# Altium footprint library PCB_TCC.PcbLib: 37 footprints (part 1 of 3)
Each footprint in its own frame and in the unit in brackets; x right, y up, seen from the top. Pads: shape width x height; smd on the part's side, far side on the other; paste and mask are expansions set on the pad; w line width, h text height; cw(c..) or ccw(c..) is an arc to the next point about the centre after c.
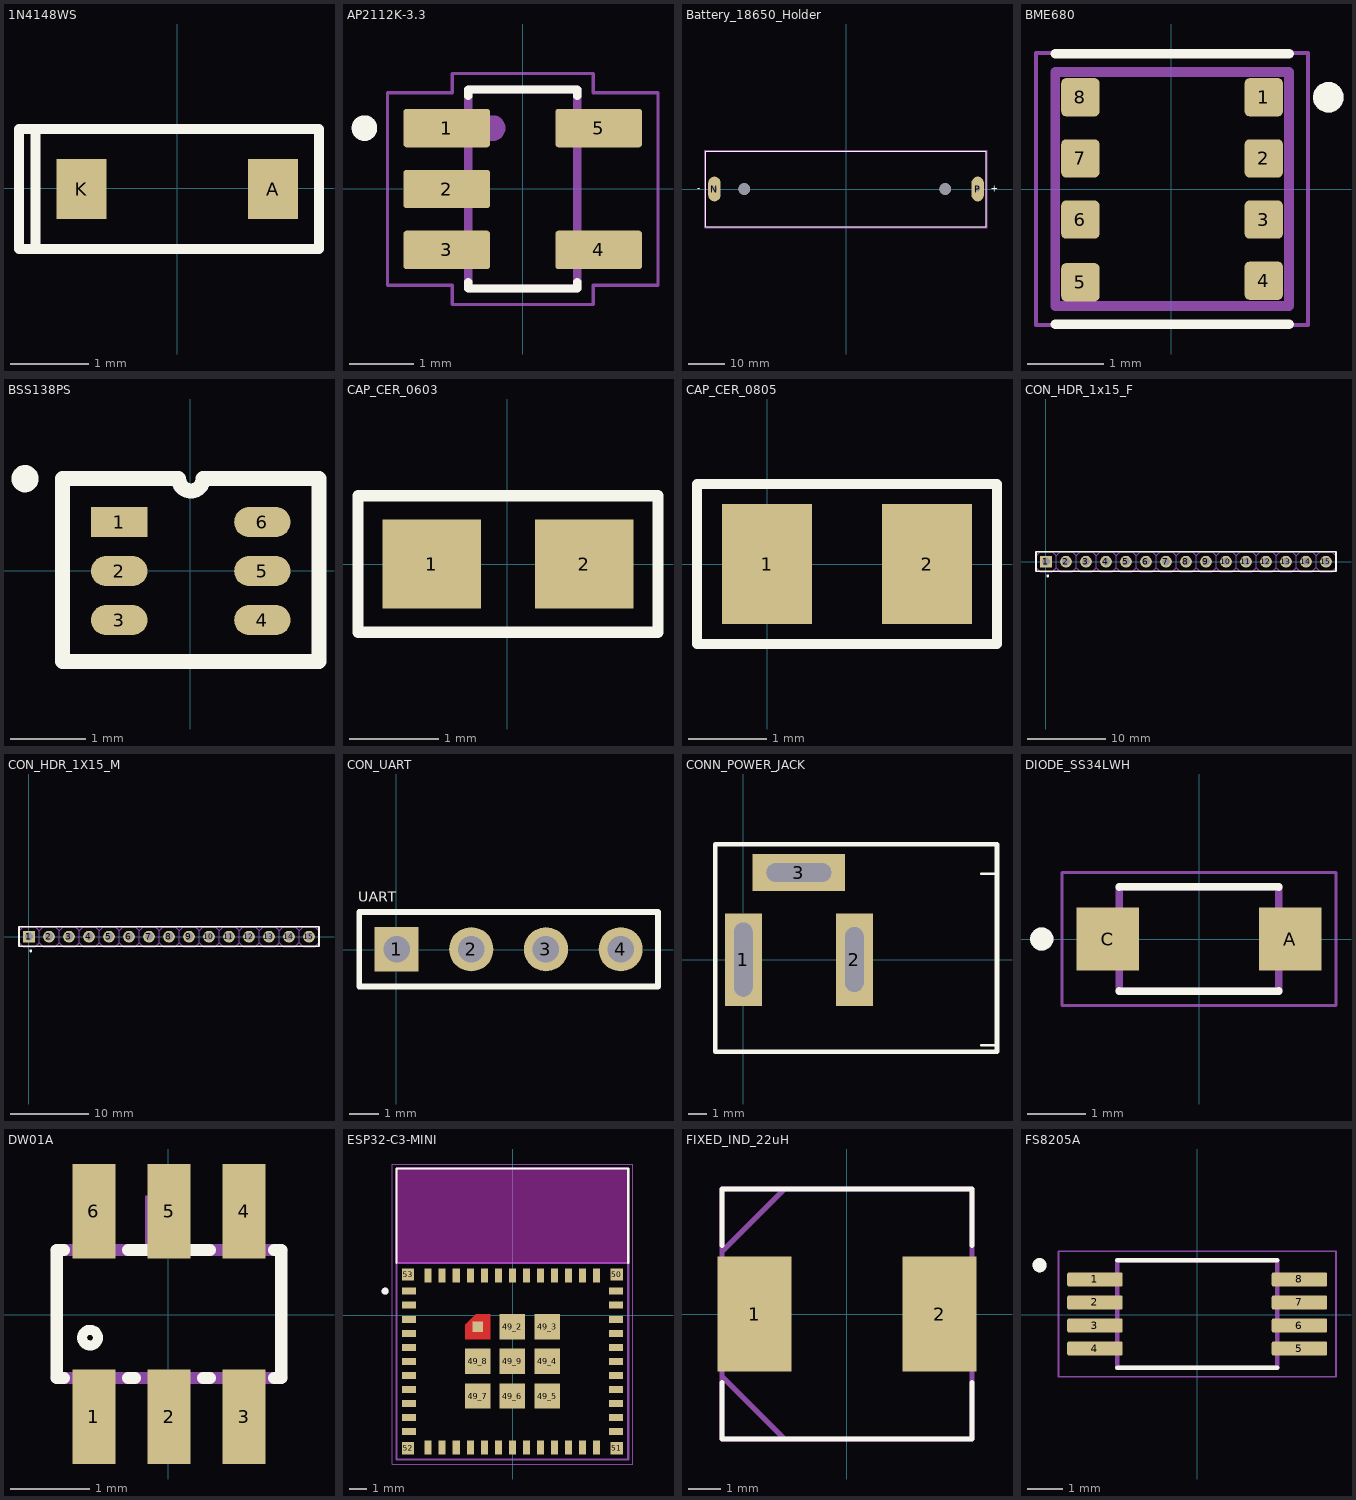
[diagram p0: the footprints below, top view; thin cyan lines are the x and y axes]

## 1N4148WS [mil]
pads (2):
  rect 25x30 smd: A(47.94,-0.44) K(-48.06,-0.44)
Top Overlay:
  lines w5: -71.06,-30.44 70.94,-30.44 70.94,29.56 -71.06,29.56 ; -71.06,-30.44 -71.06,29.56 ; -71.06,-30.44 -79.42,-30.44 -79.42,29.56 -71.06,29.56
3D body "User Library-SOD-323.step": height 43.5, standoff 0, extent -51.25,-27.01 51.12,26.13

## AP2112K-3.3 [mm]
pads (5):
  rrect15% 1.35x0.6 smd: 1(-1.187,0.948) 2(-1.187,-0.002) 3(-1.187,-0.952) 4(1.183,-0.952) 5(1.183,0.948)
Top Overlay:
  circle w0.2: c-2.471,0.948 r0.1
  lines w0.127: -0.852,-1.452 -0.852,-1.552 0.848,-1.552 0.848,-1.452 ; -0.852,1.448 -0.852,1.548 0.848,1.548 0.848,1.448
Mechanical 13:
  circle w0.2: c-0.471,0.948 r0.1
  lines w0.127: -0.852,-1.552 0.848,-1.552 0.848,1.548 -0.852,1.548 -0.852,-1.552
Mechanical 15:
  lines w0.05: -2.112,-1.502 -2.112,1.498 -1.102,1.498 -1.102,1.798 1.098,1.798 1.098,1.498 2.108,1.498 2.108,-1.502 1.098,-1.502 1.098,-1.802 -1.102,-1.802 -1.102,-1.502 -2.112,-1.502
3D body "AP2112K-3.3TRG1--3DModel-STEP-1.STEP": height 1.4, standoff 0, extent -1.4,-1.5 1.4,1.5

## Battery_18650_Holder [mm]
pads (4):
  oval 3.44x6.88 hole 1.38 square: N(-36.525,0.085) P(36.375,0.085)
  round 3.2 hole 3.2 unplated: ""(-28.245,0.085) ""(27.365,0.085)
Top Overlay:
  lines w0.127: -38.925,-10.365 -38.925,10.535 38.775,10.535 38.775,-10.365 -38.925,-10.365
  text "+" at 39.93,-0.677 h1.78
  text "-" at -41.35,-0.55 h1.78
Mechanical 13:
  lines w0.127: -38.925,-10.365 -38.925,10.535 38.775,10.535 38.775,-10.365 -38.925,-10.365
  text "+" at 39.93,-0.677 h1.78
  text "-" at -41.35,-0.55 h1.78
Mechanical 15:
  lines w0.05: -39.175,-10.615 -39.175,10.785 39.025,10.785 39.025,-10.615 -39.175,-10.615
3D body "BH-18650-PC--3DModel-STEP-56544.STEP": height 21.31, standoff -3.3, extent -38.989,-10.45 38.711,10.45

## BME680 [mm]
pads (8):
  rrect25% 0.5x0.5 smd: 1(1.21,1.201) 2(1.21,0.401) 3(1.21,-0.399) 4(1.21,-1.199) 5(-1.19,-1.219) 6(-1.19,-0.399) 7(-1.19,0.401) 8(-1.19,1.201)
Top Overlay:
  circle w0.2: c2.055,1.201 r0.1
  lines w0.127: -1.52,-1.769 1.54,-1.769 ; -1.52,1.771 1.54,1.771
Mechanical 13:
  circle w0.2: c2.055,1.201 r0.1
  lines w0.127: -1.52,-1.529 1.54,-1.529 1.54,1.531 -1.52,1.531 -1.52,-1.529
Mechanical 15:
  lines w0.05: -1.77,-1.779 -1.77,1.781 1.79,1.781 1.79,-1.779 -1.77,-1.779
3D body "step_temp.STEP": height 1, standoff 0, extent -1.49,-1.499 1.51,1.501

## BSS138PS [mm]
pads (6):
  rect 0.75x0.4 smd: 1(-0.943,0.648)
  oval 0.75x0.4 smd: 2(-0.943,-0.002) 3(-0.943,-0.652) 4(0.957,-0.652) 5(0.957,-0.002) 6(0.957,0.648)
Top Overlay:
  circle w0.203: c-2.193,1.223 r0.079
  lines w0.2: -1.693,-1.202 1.707,-1.202 1.707,1.223 0.17,1.223 cw(c0.007,1.223) -0.155,1.223 -1.693,1.223 -1.693,-1.202
3D body "sot363.step": height 1, standoff 0, extent -1.143,-1.039 1.157,1.061

## CAP_CER_0603 [mm]
pads (2):
  rect 1.1x1 smd: 1(-0.843,0.002) 2(0.857,0.002)
Top Overlay:
  lines w0.127: -1.669,-0.76 1.684,-0.76 1.684,0.764 -1.669,0.764 -1.669,-0.76
3D body "User Library-SMD CAPACITOR.step": height 0.8, standoff 0, extent -0.793,-0.398 0.807,0.402

## CAP_CER_0805 [mil]
pads (2):
  rect 45x60 smd: 1(-0.11,0.15) 2(79.89,0.15)
Top Overlay:
  lines w5: -35.11,-39.85 -35.11,40.15 114.89,40.15 114.89,-39.85 -35.11,-39.85
3D body "0805.step": height 23.62, standoff 0, extent 0.52,-24.46 79.26,24.75

## CON_HDR_1x15_F [mm]
pads (15):
  rect 1.5x1.5 hole 1.02: 1(0,0)
  round 1.5 hole 1.02: 2(2.54,0) 3(5.08,0) 4(7.62,0) 5(10.16,0) 6(12.7,0) 7(15.24,0) 8(17.78,0) 9(20.32,0) 10(22.86,0) 11(25.4,0) 12(27.94,0) 13(30.48,0) 14(33.02,0) 15(35.56,0)
Top Overlay:
  circle w0.25: c0.229,-1.796 r0.059
  lines w0.2: -1.27,-1.194 36.83,-1.194 36.83,1.27 -1.27,1.27 -1.27,-1.194
Mechanical 13:
  lines w0.025: 1.272,-0.762 1.272,0.762 ; 1.271,-0.762 0.763,-1.27 -0.76,-1.27 -1.269,-0.762 -1.268,0.762 -0.76,1.27 0.764,1.27 1.271,0.762 ; 1.272,-0.762 1.272,0.762 ; 1.271,-0.762 1.779,-1.27 3.304,-1.27 3.811,-0.762 ; 1.272,0.762 1.78,1.27 3.304,1.27 3.811,0.762 ; 3.812,-0.762 3.812,0.762 ; 3.812,-0.762 3.812,0.762 ; 3.811,-0.762 4.319,-1.27 5.844,-1.27 6.351,-0.762 ; 3.812,0.762 4.32,1.27 5.844,1.27 6.351,0.762 ; 6.352,-0.762 6.352,0.762 ; 6.352,-0.762 6.352,0.762 ; 6.351,-0.762 6.859,-1.27 8.384,-1.27 8.891,-0.762 ; 6.352,0.762 6.86,1.27 8.384,1.27 8.891,0.762 ; 8.892,-0.762 8.892,0.762 ; 8.892,-0.762 8.892,0.762 ; 8.891,-0.762 9.399,-1.27 10.924,-1.27 11.431,-0.762 ; 8.892,0.762 9.4,1.27 10.924,1.27 11.431,0.762 ; 11.432,-0.762 11.432,0.762 ; 11.432,-0.762 11.432,0.762 ; 11.431,-0.762 11.939,-1.27 13.464,-1.27 13.971,-0.762 ; 11.432,0.762 11.94,1.27 13.464,1.27 13.971,0.762 ; 13.972,-0.762 13.972,0.762 ; 13.972,-0.762 13.972,0.762 ; 13.971,-0.762 14.479,-1.27 16.004,-1.27 16.511,-0.762 ; 13.972,0.762 14.48,1.27 16.004,1.27 16.511,0.762 ; 16.512,-0.762 16.512,0.762 ; 16.512,-0.762 16.512,0.762 ; 16.511,-0.762 17.019,-1.27 18.544,-1.27 19.051,-0.762 ; 16.512,0.762 17.02,1.27 18.544,1.27 19.051,0.762 ; 19.052,-0.762 19.052,0.762 ; 19.052,-0.762 19.052,0.762 ; 19.051,-0.762 19.559,-1.27 21.084,-1.27 21.591,-0.762 ; 19.052,0.762 19.56,1.27 21.084,1.27 21.591,0.762 ; 21.592,-0.762 21.592,0.762 ; 21.592,-0.762 21.592,0.762 ; 21.591,-0.762 22.099,-1.27 23.624,-1.27 24.131,-0.762 ; 21.592,0.762 22.1,1.27 23.624,1.27 24.131,0.762 ; 24.132,-0.762 24.132,0.762 ; 24.132,-0.762 24.132,0.762 ; 24.131,-0.762 24.639,-1.27 26.164,-1.27 26.671,-0.762 ; 24.132,0.762 24.64,1.27 26.164,1.27 26.671,0.762 ; 26.672,-0.762 26.672,0.762 ; 26.672,-0.762 26.672,0.762 ; 26.671,-0.762 27.179,-1.27 28.704,-1.27 29.211,-0.762 ; 26.672,0.762 27.18,1.27 28.704,1.27 29.211,0.762 ; 29.212,-0.762 29.212,0.762 ; 29.212,-0.762 29.212,0.762 ; 29.211,-0.762 29.719,-1.27 31.244,-1.27 31.751,-0.762 ; 29.212,0.762 29.72,1.27 31.244,1.27 31.751,0.762 ; 31.752,-0.762 31.752,0.762 ; 31.752,-0.762 31.752,0.762 ; 31.751,-0.762 32.259,-1.27 33.784,-1.27 34.291,-0.762 ; 31.752,0.762 32.26,1.27 33.784,1.27 34.291,0.762 ; 34.292,-0.762 34.292,0.762 ; 34.292,-0.762 34.292,0.762 ; 34.291,-0.762 34.799,-1.27 36.324,-1.27 36.831,-0.762 36.832,0.762 36.323,1.27 34.8,1.27 34.292,0.762
3D body "V06-1x15-SV-GF-1--3DModel-STEP-468060.STEP": height 8.5, standoff -3, extent -1.516,-1.23 37.084,1.27

## CON_HDR_1X15_M [mm]
pads (15):
  rect 1.5x1.5 hole 1.02: 1(0,0)
  round 1.5 hole 1.02: 2(2.54,0) 3(5.08,0) 4(7.62,0) 5(10.16,0) 6(12.7,0) 7(15.24,0) 8(17.78,0) 9(20.32,0) 10(22.86,0) 11(25.4,0) 12(27.94,0) 13(30.48,0) 14(33.02,0) 15(35.56,0)
Top Overlay:
  circle w0.25: c0.229,-1.796 r0.059
  lines w0.2: -1.27,-1.194 36.83,-1.194 36.83,1.27 -1.27,1.27 -1.27,-1.194
Mechanical 13:
  lines w0.025: 1.272,-0.762 1.272,0.762 ; 1.271,-0.762 0.763,-1.27 -0.76,-1.27 -1.269,-0.762 -1.268,0.762 -0.76,1.27 0.764,1.27 1.271,0.762 ; 1.272,-0.762 1.272,0.762 ; 1.271,-0.762 1.779,-1.27 3.304,-1.27 3.811,-0.762 ; 1.272,0.762 1.78,1.27 3.304,1.27 3.811,0.762 ; 3.812,-0.762 3.812,0.762 ; 3.812,-0.762 3.812,0.762 ; 3.811,-0.762 4.319,-1.27 5.844,-1.27 6.351,-0.762 ; 3.812,0.762 4.32,1.27 5.844,1.27 6.351,0.762 ; 6.352,-0.762 6.352,0.762 ; 6.352,-0.762 6.352,0.762 ; 6.351,-0.762 6.859,-1.27 8.384,-1.27 8.891,-0.762 ; 6.352,0.762 6.86,1.27 8.384,1.27 8.891,0.762 ; 8.892,-0.762 8.892,0.762 ; 8.892,-0.762 8.892,0.762 ; 8.891,-0.762 9.399,-1.27 10.924,-1.27 11.431,-0.762 ; 8.892,0.762 9.4,1.27 10.924,1.27 11.431,0.762 ; 11.432,-0.762 11.432,0.762 ; 11.432,-0.762 11.432,0.762 ; 11.431,-0.762 11.939,-1.27 13.464,-1.27 13.971,-0.762 ; 11.432,0.762 11.94,1.27 13.464,1.27 13.971,0.762 ; 13.972,-0.762 13.972,0.762 ; 13.972,-0.762 13.972,0.762 ; 13.971,-0.762 14.479,-1.27 16.004,-1.27 16.511,-0.762 ; 13.972,0.762 14.48,1.27 16.004,1.27 16.511,0.762 ; 16.512,-0.762 16.512,0.762 ; 16.512,-0.762 16.512,0.762 ; 16.511,-0.762 17.019,-1.27 18.544,-1.27 19.051,-0.762 ; 16.512,0.762 17.02,1.27 18.544,1.27 19.051,0.762 ; 19.052,-0.762 19.052,0.762 ; 19.052,-0.762 19.052,0.762 ; 19.051,-0.762 19.559,-1.27 21.084,-1.27 21.591,-0.762 ; 19.052,0.762 19.56,1.27 21.084,1.27 21.591,0.762 ; 21.592,-0.762 21.592,0.762 ; 21.592,-0.762 21.592,0.762 ; 21.591,-0.762 22.099,-1.27 23.624,-1.27 24.131,-0.762 ; 21.592,0.762 22.1,1.27 23.624,1.27 24.131,0.762 ; 24.132,-0.762 24.132,0.762 ; 24.132,-0.762 24.132,0.762 ; 24.131,-0.762 24.639,-1.27 26.164,-1.27 26.671,-0.762 ; 24.132,0.762 24.64,1.27 26.164,1.27 26.671,0.762 ; 26.672,-0.762 26.672,0.762 ; 26.672,-0.762 26.672,0.762 ; 26.671,-0.762 27.179,-1.27 28.704,-1.27 29.211,-0.762 ; 26.672,0.762 27.18,1.27 28.704,1.27 29.211,0.762 ; 29.212,-0.762 29.212,0.762 ; 29.212,-0.762 29.212,0.762 ; 29.211,-0.762 29.719,-1.27 31.244,-1.27 31.751,-0.762 ; 29.212,0.762 29.72,1.27 31.244,1.27 31.751,0.762 ; 31.752,-0.762 31.752,0.762 ; 31.752,-0.762 31.752,0.762 ; 31.751,-0.762 32.259,-1.27 33.784,-1.27 34.291,-0.762 ; 31.752,0.762 32.26,1.27 33.784,1.27 34.291,0.762 ; 34.292,-0.762 34.292,0.762 ; 34.292,-0.762 34.292,0.762 ; 34.291,-0.762 34.799,-1.27 36.324,-1.27 36.831,-0.762 36.832,0.762 36.323,1.27 34.8,1.27 34.292,0.762
3D body: height 2.54, standoff 0, extent -1.268,-1.27 1.272,1.27
3D body: height 12.7, standoff -2.54, extent -0.349,-0.349 0.349,0.349
3D body: height 2.54, standoff 0, extent 1.272,-1.27 3.812,1.27
3D body: height 12.7, standoff -2.54, extent 2.191,-0.349 2.889,0.349
3D body: height 2.54, standoff 0, extent 3.812,-1.27 6.352,1.27
3D body: height 12.7, standoff -2.54, extent 4.731,-0.349 5.429,0.349
3D body: height 2.54, standoff 0, extent 6.352,-1.27 8.892,1.27
3D body: height 12.7, standoff -2.54, extent 7.271,-0.349 7.969,0.349
3D body: height 2.54, standoff 0, extent 8.892,-1.27 11.432,1.27
3D body: height 12.7, standoff -2.54, extent 9.811,-0.349 10.509,0.349
3D body: height 2.54, standoff 0, extent 11.432,-1.27 13.972,1.27
3D body: height 12.7, standoff -2.54, extent 12.351,-0.349 13.049,0.349
3D body: height 2.54, standoff 0, extent 13.972,-1.27 16.512,1.27
3D body: height 12.7, standoff -2.54, extent 14.891,-0.349 15.589,0.349
3D body: height 2.54, standoff 0, extent 16.512,-1.27 19.052,1.27
3D body: height 12.7, standoff -2.54, extent 17.431,-0.349 18.129,0.349
3D body: height 2.54, standoff 0, extent 19.052,-1.27 21.592,1.27
3D body: height 12.7, standoff -2.54, extent 19.971,-0.349 20.669,0.349
3D body: height 2.54, standoff 0, extent 21.592,-1.27 24.132,1.27
3D body: height 12.7, standoff -2.54, extent 22.511,-0.349 23.209,0.349
3D body: height 2.54, standoff 0, extent 24.132,-1.27 26.672,1.27
3D body: height 12.7, standoff -2.54, extent 25.051,-0.349 25.749,0.349
3D body: height 2.54, standoff 0, extent 26.672,-1.27 29.212,1.27
3D body: height 12.7, standoff -2.54, extent 27.591,-0.349 28.289,0.349
3D body: height 2.54, standoff 0, extent 29.212,-1.27 31.752,1.27
3D body: height 12.7, standoff -2.54, extent 30.131,-0.349 30.829,0.349
3D body: height 2.54, standoff 0, extent 31.752,-1.27 34.292,1.27
3D body: height 12.7, standoff -2.54, extent 32.671,-0.349 33.369,0.349
3D body: height 2.54, standoff 0, extent 34.292,-1.27 36.832,1.27
3D body: height 12.7, standoff -2.54, extent 35.211,-0.349 35.909,0.349

## CON_UART [mm]
pads (4):
  rect 1.5x1.5 hole 0.9: 1(0.011,0.019)
  round 1.5 hole 0.9: 2(2.551,0.019) 3(5.091,0.019) 4(7.631,0.019)
Top Overlay:
  lines w0.2: -1.259,-1.251 8.901,-1.251 8.901,1.289 -1.259,1.289 -1.259,-1.251
  text "UART" at -1.302,1.636 h0.35

## CONN_POWER_JACK [mm]
pads (3):
  rect 2x5 hole 1 slot 4 at 90 deg: 1(0.015,0.018)
  rect 2x5 hole 1 slot 3.5 at 90 deg: 2(6.015,0.018)
  rect 5x2 hole 1 slot 3.5 at 0 deg: 3(3.015,4.718)
Top Overlay:
  lines w0.127: 12.871,-4.617 13.715,-4.617 ; 12.871,4.654 13.715,4.654 ; 13.715,-4.682 13.715,4.718
  lines w0.254: -1.506,-4.96 -1.506,6.242 13.715,6.242 13.715,-4.96 -1.506,-4.96
3D body "pj-002ah.stp": height 11.1, standoff -3.4, extent -0.642,-4.478 13.758,4.922

## DIODE_SS34LWH [mm]
pads (2):
  rect 1.08x1.09 smd: A(1.574,0.002) C(-1.576,0.002)
Top Overlay:
  circle w0.2: c-2.716,0.002 r0.1
  lines w0.127: -1.376,-0.893 -1.376,-0.898 1.374,-0.898 1.374,-0.893 ; -1.376,0.897 -1.376,0.902 1.374,0.902 1.374,0.897
Mechanical 13:
  circle w0.2: c-2.716,0.002 r0.1
  lines w0.127: -1.376,-0.898 -1.376,0.902 1.374,0.902 1.374,-0.898 -1.376,-0.898
Mechanical 15:
  lines w0.05: -2.366,-1.148 -2.366,1.152 2.364,1.152 2.364,-1.148 -2.366,-1.148
3D body "step_temp.STEP": height 1.02, standoff 0, extent -1.851,-0.898 1.849,0.902

## DW01A [mm]
pads (6):
  rect 0.55x1.2 smd: 1(-0.941,-1.293) 2(0.009,-1.293) 3(0.959,-1.293) 4(0.959,1.307) 5(0.009,1.307) 6(-0.941,1.307)
Top Overlay:
  circle w0.127: c-0.991,-0.293 r0.1
  lines w0.152: -1.319,-0.803 -1.413,-0.803 -1.413,0.817 -1.319,0.817 ; -0.513,-0.803 -0.419,-0.803 ; -0.513,0.817 0.531,0.817 ; 0.437,-0.803 0.531,-0.803 ; 1.337,-0.803 1.431,-0.803 1.431,0.817 1.337,0.817
Mechanical 13:
  region: 0.209,0.857 -0.291,0.857 -0.291,1.507 0.209,1.507
  region: -0.691,0.857 -1.191,0.857 -1.191,1.507 -0.691,1.507
  region: 1.209,0.857 0.709,0.857 0.709,1.507 1.209,1.507
  region: 1.209,-1.493 0.709,-1.493 0.709,-0.843 1.209,-0.843
  region: 0.259,-1.493 -0.241,-1.493 -0.241,-0.843 0.259,-0.843
  region: -0.691,-1.493 -1.191,-1.493 -1.191,-0.843 -0.691,-0.843
  lines w0.152: -1.413,-0.803 1.431,-0.803 ; -1.413,0.817 1.431,0.817
3D body "step_temp.STEP": height 1.45, standoff 0, extent -1.441,-1.393 1.459,1.407

## ESP32-C3-MINI [mm] "ESP32-C3-MINI-1-H4"
pads (61):
  rect 0.8x0.4 smd: 1(-5.924,1.369) 2(-5.924,0.569) 3(-5.924,-0.231) 4(-5.924,-1.031) 5(-5.924,-1.831) 6(-5.924,-2.631) 7(-5.924,-3.431) 8(-5.924,-4.231) 9(-5.924,-5.031) 10(-5.924,-5.831) 11(-5.924,-6.631) 25(5.876,-6.631) 26(5.876,-5.831) 27(5.876,-5.031) 28(5.876,-4.231) 29(5.876,-3.431) 30(5.876,-2.631) 31(5.876,-1.831) 32(5.876,-1.031) 33(5.876,-0.231) 34(5.876,0.569) 35(5.876,1.369)
  rect 0.4x0.8 smd: 12(-4.824,-7.531) 13(-4.024,-7.531) 14(-3.224,-7.531) 15(-2.424,-7.531) 16(-1.624,-7.531) 17(-0.824,-7.531) 18(-0.024,-7.531) 19(0.776,-7.531) 20(1.576,-7.531) 21(2.376,-7.531) 22(3.176,-7.531) 23(3.976,-7.531) 24(4.776,-7.531) 36(4.776,2.269) 37(3.976,2.269) 38(3.176,2.269) 39(2.376,2.269) 40(1.576,2.269) 41(0.776,2.269) 42(-0.024,2.269) 43(-0.824,2.269) 44(-1.624,2.269) 45(-2.424,2.269) 46(-3.224,2.269) 47(-4.024,2.269) 48(-4.824,2.269)
  rect 0.6x0.6 smd paste-1 mask+0: 49_1(-1.999,-0.656)
  rect 1.45x1.45 smd: 49_2(-0.024,-0.656) 49_3(1.951,-0.656) 49_4(1.951,-2.631) 49_5(1.951,-4.606) 49_6(-0.024,-4.606) 49_7(-1.999,-4.606) 49_8(-1.999,-2.631) 49_9(-0.024,-2.631)
  rect 0.7x0.7 smd: 50(5.926,2.319) 51(5.926,-7.581) 52(-5.974,-7.581) 53(-5.974,2.319)
Top Layer:
  region: -1.274,-1.381 -2.724,-1.381 -2.724,-0.531 -2.124,0.069 -1.274,0.069
Top Overlay:
  circle w0.2: c-7.274,1.369 r0.1
  lines w0.127: -6.624,2.989 -6.624,8.369 6.576,8.369 6.576,2.989
Top Paste:
  region: -1.274,-1.381 -2.724,-1.381 -2.724,-0.531 -2.124,0.069 -1.274,0.069
Top Solder:
  region: -1.174,-1.481 -2.824,-1.481 -2.824,-0.491 -2.164,0.169 -1.174,0.169
Keep-Out Layer:
  region: 6.576,2.969 -6.624,2.969 -6.624,8.369 6.576,8.369
  region: 6.576,2.969 -6.624,2.969 -6.624,8.369 6.576,8.369
Mechanical 13:
  circle w0.2: c-7.274,1.369 r0.1
  lines w0.127: -6.624,2.969 -6.624,-8.231 6.576,-8.231 6.576,2.969 ; -6.624,2.969 -6.624,8.369 6.576,8.369 6.576,2.969 ; -6.624,2.969 6.576,2.969
Mechanical 15:
  lines w0.05: -6.874,-8.481 -6.874,8.619 6.826,8.619 6.826,-8.481 -6.874,-8.481
3D body "step_temp.STEP": height 2.55, standoff 0, extent -6.624,-8.231 6.576,8.369

## FIXED_IND_22uH [mil]
pads (2):
  rect 89x138 smd: 1(-110.76,0.43) 2(111.24,0.43)
Top Overlay:
  lines w6: -149.76,-81.57 -149.76,-149.57 150.24,-149.57 150.24,-81.57 ; -149.76,82.43 -149.76,150.43 150.24,150.43 150.24,82.43
Mechanical 13:
  lines w6: -149.76,-74.57 -74.76,-149.57 ; -149.76,75.43 -74.76,150.43 ; -149.76,-149.57 150.24,-149.57 150.24,150.43 -149.76,150.43 -149.76,-149.57
3D body "step_temp.STEP": height 139.76, standoff 0, extent -149.36,-149.17 149.85,150.04

## FS8205A [mm]
pads (8):
  rrect25% 1.56x0.4 smd: 1(-2.878,0.989) 2(-2.878,0.339) 3(-2.878,-0.311) 4(-2.878,-0.961) 5(2.882,-0.961) 6(2.882,-0.311) 7(2.882,0.339) 8(2.882,0.989)
Top Overlay:
  circle w0.2: c-4.438,1.389 r0.1
  lines w0.127: -2.248,-1.501 2.252,-1.501 ; -2.248,1.529 2.252,1.529
Mechanical 13:
  circle w0.2: c-4.438,1.389 r0.1
  lines w0.127: -2.248,-1.501 -2.248,1.529 2.252,1.529 2.252,-1.501 -2.248,-1.501
Mechanical 15:
  lines w0.05: -3.908,-1.751 -3.908,1.779 3.912,1.779 3.912,-1.751 -3.908,-1.751
3D body "FS8205A--3DModel-STEP-56544.STEP": height 1.2, standoff 0, extent -3.249,-1.451 3.151,1.479